# Altium footprint library Generic PMD.PcbLib: 85 footprints (part 6 of 6)
Each footprint in its own frame and in the unit in brackets; x right, y up, seen from the top. Pads: shape width x height; smd on the part's side, far side on the other; paste and mask are expansions set on the pad; w line width, h text height; cw(c..) or ccw(c..) is an arc to the next point about the centre after c.
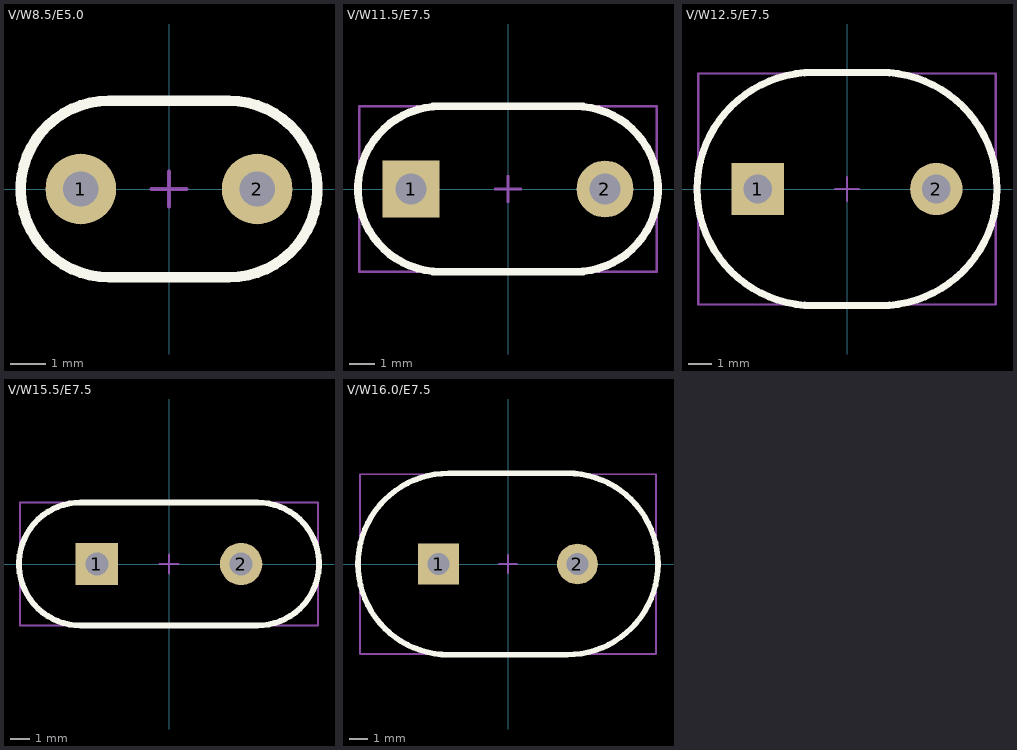
[diagram p5: the footprints below, top view; thin cyan lines are the x and y axes]

## V/W8.5/E5.0 [mm] "Generic Varistor; Body Width 8.5mm; Pitch 5.0mm"
height 10
pads (2):
  round 2 hole 1: 1(-2.5,0) 2(2.5,0)
Top Overlay:
  lines w0.3: -1.7,-2.5 cw(c-1.7,0) -1.7,2.5 1.7,2.5 cw(c1.7,0) 1.7,-2.5 -1.7,-2.5
Package:
  lines w0.1: -1.75,-2.5 cw(c-1.75,0) -1.75,2.5 1.75,2.5 cw(c1.75,0) 1.75,-2.5 -1.75,-2.5
Courtyard:
  lines w0.1: -0.5,0 0.5,0 ; 0,-0.5 0,0.5
3D body: height 10, standoff 0, extent -4.3,-2.5 4.2,2.5

## V/W11.5/E7.5 [mm] "Generic Varistor; Body Width 11.5mm; Pitch 7.5mm"
height 14.5
pads (2):
  rect 2.2x2.2 hole 1.2: 1(-3.75,0)
  round 2.2 hole 1.2: 2(3.75,0)
Top Overlay:
  lines w0.3: -2.6,-3.2 cw(c-2.6,0) -2.6,3.2 2.6,3.2 cw(c2.6,0) 2.6,-3.2 -2.6,-3.2
Package:
  lines w0.1: -5.75,-3.2 -5.75,3.2 5.75,3.2 5.75,-3.2 -5.75,-3.2
Courtyard:
  lines w0.1: -0.5,0 0.5,0 ; 0,-0.5 0,0.5
3D body: height 14.5, standoff 0, extent -5.75,-3.2 5.75,3.2

## V/W12.5/E7.5 [mm] "Generic Varistor; Body Width 12.5mm; Pitch 7.5mm"
height 14.5
pads (2):
  rect 2.2x2.2 hole 1.2: 1(-3.75,0)
  round 2.2 hole 1.2: 2(3.75,0)
Top Overlay:
  lines w0.3: -1.4,-4.9 cw(c-1.4,0) -1.4,4.9 1.4,4.9 cw(c1.4,0) 1.4,-4.9 -1.4,-4.9
Package:
  lines w0.1: -6.25,-4.85 -6.25,4.85 6.25,4.85 6.25,-4.85 -6.25,-4.85
Courtyard:
  lines w0.1: -0.5,0 0.5,0 ; 0,-0.5 0,0.5
3D body: height 14.5, standoff 0, extent -6.25,-4.85 6.25,4.85

## V/W15.5/E7.5 [mm] "Generic Varistor; Body Width 15.5mm; Pitch 7.5mm"
height 18.5
pads (2):
  rect 2.2x2.2 hole 1.2: 1(-3.75,0)
  round 2.2 hole 1.2: 2(3.75,0)
Top Overlay:
  lines w0.3: -4.6,-3.2 cw(c-4.6,0) -4.6,3.2 4.6,3.2 cw(c4.6,0) 4.6,-3.2 -4.6,-3.2
Package:
  lines w0.1: -7.75,-3.2 7.75,-3.2 7.75,3.2 -7.75,3.2 -7.75,-3.2
Courtyard:
  lines w0.1: -0.5,0 0.5,0 ; 0,-0.5 0,0.5
3D body: height 14.5, standoff 0, extent -7.75,-3.2 7.75,3.2

## V/W16.0/E7.5 [mm] "Generic Varistor; Body Width 16.0mm; Pitch 7.5mm"
height 18.5
pads (2):
  rect 2.2x2.2 hole 1.2: 1(-3.75,0)
  round 2.2 hole 1.2: 2(3.75,0)
Top Overlay:
  lines w0.3: 3.2,-4.9 -3.2,-4.9 cw(c-3.2,0) -3.2,4.9 3.2,4.9 ; 3.2,-4.896 ccw(c3.2,0.004) 3.2,4.904
Package:
  lines w0.1: -8,-4.85 -8,4.85 8,4.85 8,-4.85 -8,-4.85
Courtyard:
  lines w0.1: -0.5,0 0.5,0 ; 0,-0.5 0,0.5
3D body: height 14.5, standoff 0, extent -8,-4.85 8,4.85